# EAGLE library part SFH11-XXPC-D08- (library con-sullins-sxh11)
RECEPTACAL
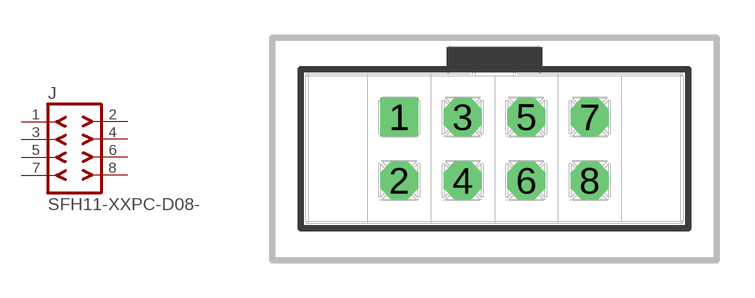
[diagram p1: symbol with the pads of SFH11-XXPC-D08-ST; footprint SFH11-XXPC-D08-ST]

Designator prefix J

## SFH11-XXPC-D08-ST  [SFH11-XXPC-D08-ST]
1  1  pas
2  2  pas
3  3  pas
4  4  pas
5  5  pas
6  6  pas
7  7  pas
8  8  pas

## Footprint SFH11-XXPC-D08-ST (pad centres in mm)
RECEPTACAL
drill 1.016 square: 1 -3.81,1.27
drill 1.016 octagon: 2 -3.81,-1.27; 3 -1.27,1.27; 4 -1.27,-1.27; 5 1.27,1.27; 6 1.27,-1.27; 7 3.81,1.27; 8 3.81,-1.27